# Altium footprint library QFP64.PcbLib: 1 footprints
Each footprint in its own frame and in the unit in brackets; x right, y up, seen from the top. Pads: shape width x height; smd on the part's side, far side on the other; paste and mask are expansions set on the pad; w line width, h text height; cw(c..) or ccw(c..) is an arc to the next point about the centre after c.
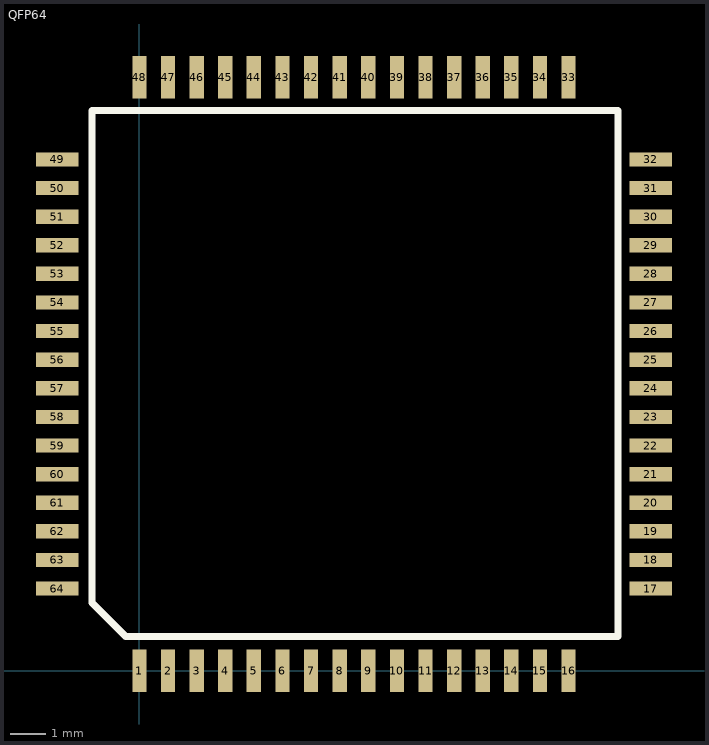
[diagram p0: the footprint, top view; thin cyan lines are the x and y axes]

## QFP64 [mm]
height 1.016
pads (64):
  rect 0.4x1.2 smd: 1(0,0) 2(0.8,0) 3(1.6,0) 4(2.4,0) 5(3.2,0) 6(4,0) 7(4.8,0) 8(5.6,0) 9(6.4,0) 10(7.2,0) 11(8,0) 12(8.8,0) 13(9.6,0) 14(10.4,0) 15(11.2,0) 16(12,0) 33(12,16.6) 34(11.2,16.6) 35(10.4,16.6) 36(9.6,16.6) 37(8.8,16.6) 38(8,16.6) 39(7.2,16.6) 40(6.4,16.6) 41(5.6,16.6) 42(4.8,16.6) 43(4,16.6) 44(3.2,16.6) 45(2.4,16.6) 46(1.6,16.6) 47(0.8,16.6) 48(0,16.6)
  rect 1.2x0.4 smd: 17(14.3,2.3) 18(14.3,3.1) 19(14.3,3.9) 20(14.3,4.7) 21(14.3,5.5) 22(14.3,6.3) 23(14.3,7.1) 24(14.3,7.9) 25(14.3,8.7) 26(14.3,9.5) 27(14.3,10.3) 28(14.3,11.1) 29(14.3,11.9) 30(14.3,12.7) 31(14.3,13.5) 32(14.3,14.3) 49(-2.3,14.3) 50(-2.3,13.5) 51(-2.3,12.7) 52(-2.3,11.9) 53(-2.3,11.1) 54(-2.3,10.3) 55(-2.3,9.5) 56(-2.3,8.7) 57(-2.3,7.9) 58(-2.3,7.1) 59(-2.3,6.3) 60(-2.3,5.5) 61(-2.3,4.7) 62(-2.3,3.9) 63(-2.3,3.1) 64(-2.3,2.3)
TopOverlay:
  lines w0.2: -1.329,1.901 -1.329,15.666 13.381,15.666 13.381,0.956 -0.384,0.956 -1.329,1.901
  text "." at -0.127,1.422 h1.52